# Altium footprint library 691 313 510 0xx.PcbLib: 23 footprints (part 1 of 2)
Each footprint in its own frame and in the unit in brackets; x right, y up, seen from the top. Pads: shape width x height; smd on the part's side, far side on the other; paste and mask are expansions set on the pad; w line width, h text height; cw(c..) or ccw(c..) is an arc to the next point about the centre after c.
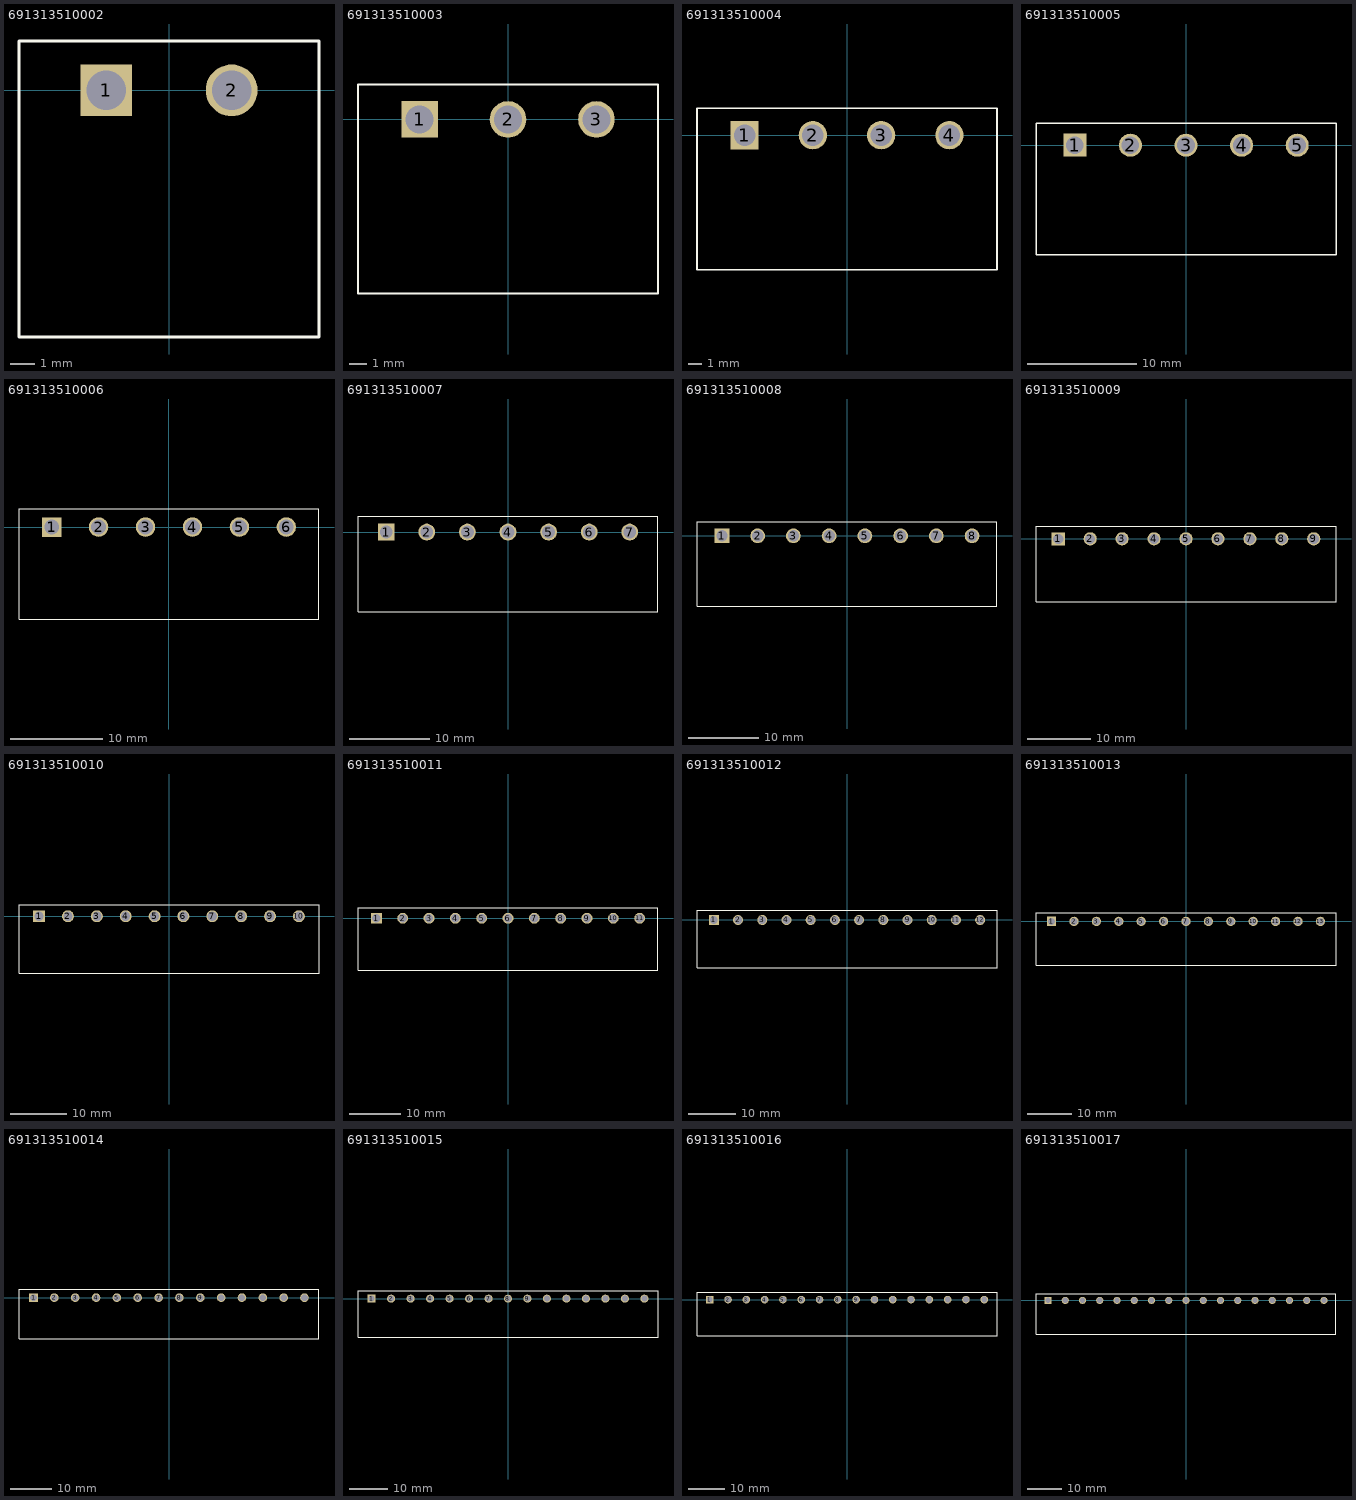
[diagram p0: the footprints below, top view; thin cyan lines are the x and y axes]

## 691313510002 [mm] "5,08mm - PCB Headers - Horizontal - Closed ends - 02p"
height 8.5
pads (2):
  rect 2.1x2.1 hole 1.6: 1(-2.54,0)
  round 2.1 hole 1.6: 2(2.54,0)
Top Overlay:
  lines w0.127: -6.08,-10 6.08,-10 6.08,2 -6.08,2 -6.08,-10
3D body: height 8.51, standoff -3.49, extent -6.08,-10 6.08,2

## 691313510003 [mm] "5,08mm - PCB Headers - Horizontal - Closed ends - 03p"
height 8.5
pads (3):
  rect 2.1x2.1 hole 1.6: 1(-5.08,0)
  round 2.1 hole 1.6: 2(0,0) 3(5.08,0)
Top Overlay:
  lines w0.127: -8.62,-10 8.62,-10 8.62,2 -8.62,2 -8.62,-10
3D body: height 8.51, standoff -3.49, extent -8.62,-10 8.62,2

## 691313510004 [mm] "5,08mm - PCB Headers - Horizontal - Closed ends - 04p"
height 8.5
pads (4):
  rect 2.1x2.1 hole 1.6: 1(-7.62,0)
  round 2.1 hole 1.6: 2(-2.54,0) 3(2.54,0) 4(7.62,0)
Top Overlay:
  lines w0.127: -11.16,-10 11.16,-10 11.16,2 -11.16,2 -11.16,-10
3D body: height 8.51, standoff -3.49, extent -11.16,-10 11.16,2

## 691313510005 [mm] "5,08mm - PCB Headers - Horizontal - Closed ends - 05p"
height 8.5
pads (5):
  rect 2.1x2.1 hole 1.6: 1(-10.16,0)
  round 2.1 hole 1.6: 2(-5.08,0) 3(0,0) 4(5.08,0) 5(10.16,0)
Top Overlay:
  lines w0.127: -13.7,-10 13.7,-10 13.7,2 -13.7,2 -13.7,-10
3D body: height 8.51, standoff -3.49, extent -13.7,-10 13.7,2

## 691313510006 [mm] "5,08mm - PCB Headers - Horizontal - Closed ends - 06p"
height 8.5
pads (6):
  rect 2.1x2.1 hole 1.6: 1(-12.7,0)
  round 2.1 hole 1.6: 2(-7.62,0) 3(-2.54,0) 4(2.54,0) 5(7.62,0) 6(12.7,0)
Top Overlay:
  lines w0.127: -16.24,-10 -16.24,2 16.24,2 16.24,-10 -16.24,-10
3D body: height 8.51, standoff -3.49, extent -16.24,-10 16.24,2

## 691313510007 [mm] "5,08mm - PCB Headers - Horizontal - Closed ends - 07p"
height 8.5
pads (7):
  rect 2.1x2.1 hole 1.6: 1(-15.24,0)
  round 2.1 hole 1.6: 2(-10.16,0) 3(-5.08,0) 4(0,0) 5(5.08,0) 6(10.16,0) 7(15.24,0)
Top Overlay:
  lines w0.127: -18.78,-10 18.78,-10 18.78,2 -18.78,2 -18.78,-10
3D body: height 8.51, standoff -3.49, extent -18.78,-10 18.78,2

## 691313510008 [mm] "5,08mm - PCB Headers - Horizontal - Closed ends - 08p"
height 8.5
pads (8):
  rect 2.1x2.1 hole 1.6: 1(-17.78,0)
  round 2.1 hole 1.6: 2(-12.7,0) 3(-7.62,0) 4(-2.54,0) 5(2.54,0) 6(7.62,0) 7(12.7,0) 8(17.78,0)
Top Overlay:
  lines w0.127: -21.32,-10 21.32,-10 21.32,2 -21.32,2 -21.32,-10
3D body: height 8.51, standoff -3.49, extent -21.32,-10 21.32,2

## 691313510009 [mm] "5,08mm - PCB Headers - Horizontal - Closed ends - 09p"
height 8.5
pads (9):
  rect 2.1x2.1 hole 1.6: 1(-20.32,0)
  round 2.1 hole 1.6: 2(-15.24,0) 3(-10.16,0) 4(-5.08,0) 5(0,0) 6(5.08,0) 7(10.16,0) 8(15.24,0) 9(20.32,0)
Top Overlay:
  lines w0.127: -23.86,-10 23.86,-10 23.86,2 -23.86,2 -23.86,-10
3D body: height 8.51, standoff -3.49, extent -23.86,-10 23.86,2

## 691313510010 [mm] "5,08mm - PCB Headers - Horizontal - Closed ends - 10p"
height 8.5
pads (10):
  rect 2.1x2.1 hole 1.6: 1(-22.86,0)
  round 2.1 hole 1.6: 2(-17.78,0) 3(-12.7,0) 4(-7.62,0) 5(-2.54,0) 6(2.54,0) 7(7.62,0) 8(12.7,0) 9(17.78,0) 10(22.86,0)
Top Overlay:
  lines w0.127: -26.4,-10 26.4,-10 26.4,2 -26.4,2 -26.4,-10
3D body: height 8.51, standoff -3.49, extent -26.4,-10 26.4,2

## 691313510011 [mm] "5,08mm - PCB Headers - Horizontal - Closed ends - 11p"
height 8.5
pads (11):
  rect 2.1x2.1 hole 1.6: 1(-25.4,0)
  round 2.1 hole 1.6: 2(-20.32,0) 3(-15.24,0) 4(-10.16,0) 5(-5.08,0) 6(0,0) 7(5.08,0) 8(10.16,0) 9(15.24,0) 10(20.32,0) 11(25.4,0)
Top Overlay:
  lines w0.127: -28.94,-10 -28.94,2 28.94,2 28.94,-10 -28.94,-10
3D body: height 8.51, standoff -3.49, extent -28.94,-10 28.94,2

## 691313510012 [mm] "5,08mm - PCB Headers - Horizontal - Closed ends - 12p"
height 8.5
pads (12):
  rect 2.1x2.1 hole 1.6: 1(-27.94,0)
  round 2.1 hole 1.6: 2(-22.86,0) 3(-17.78,0) 4(-12.7,0) 5(-7.62,0) 6(-2.54,0) 7(2.54,0) 8(7.62,0) 9(12.7,0) 10(17.78,0) 11(22.86,0) 12(27.94,0)
Top Overlay:
  lines w0.127: -31.48,-10 31.48,-10 31.48,2 -31.48,2 -31.48,-10
3D body: height 8.51, standoff -3.49, extent -31.48,-10 31.48,2

## 691313510013 [mm] "5,08mm - PCB Headers - Horizontal - Closed ends - 13p"
height 8.5
pads (13):
  rect 2.1x2.1 hole 1.6: 1(-30.48,0)
  round 2.1 hole 1.6: 2(-25.4,0) 3(-20.32,0) 4(-15.24,0) 5(-10.16,0) 6(-5.08,0) 7(0,0) 8(5.08,0) 9(10.16,0) 10(15.24,0) 11(20.32,0) 12(25.4,0) 13(30.48,0)
Top Overlay:
  lines w0.127: -34.02,-10 34.02,-10 34.02,2 -34.02,2 -34.02,-10
3D body: height 8.51, standoff -3.49, extent -34.02,-10 34.02,2

## 691313510014 [mm] "5,08mm - PCB Headers - Horizontal - Closed ends - 14p"
height 8.5
pads (14):
  rect 2.1x2.1 hole 1.6: 1(-33.02,0)
  round 2.1 hole 1.6: 2(-27.94,0) 3(-22.86,0) 4(-17.78,0) 5(-12.7,0) 6(-7.62,0) 7(-2.54,0) 8(2.54,0) 9(7.62,0) 10(12.7,0) 11(17.78,0) 12(22.86,0) 13(27.94,0) 14(33.02,0)
Top Overlay:
  lines w0.127: -36.56,-10 -36.56,2 36.56,2 36.56,-10 -36.56,-10
3D body: height 8.51, standoff -3.49, extent -36.56,-10 36.56,2

## 691313510015 [mm] "5,08mm - PCB Headers - Horizontal - Closed ends - 15p"
height 8.5
pads (15):
  rect 2.1x2.1 hole 1.6: 1(-35.56,0)
  round 2.1 hole 1.6: 2(-30.48,0) 3(-25.4,0) 4(-20.32,0) 5(-15.24,0) 6(-10.16,0) 7(-5.08,0) 8(0,0) 9(5.08,0) 10(10.16,0) 11(15.24,0) 12(20.32,0) 13(25.4,0) 14(30.48,0) 15(35.56,0)
Top Overlay:
  lines w0.127: -39.1,-10 39.1,-10 39.1,2 -39.1,2 -39.1,-10
3D body: height 8.51, standoff -3.49, extent -39.1,-10 39.1,2

## 691313510016 [mm] "5,08mm - PCB Headers - Horizontal - Closed ends - 16p"
height 8.5
pads (16):
  rect 2.1x2.1 hole 1.6: 1(-38.1,0)
  round 2.1 hole 1.6: 2(-33.02,0) 3(-27.94,0) 4(-22.86,0) 5(-17.78,0) 6(-12.7,0) 7(-7.62,0) 8(-2.54,0) 9(2.54,0) 10(7.62,0) 11(12.7,0) 12(17.78,0) 13(22.86,0) 14(27.94,0) 15(33.02,0) 16(38.1,0)
Top Overlay:
  lines w0.127: -41.64,-10 41.64,-10 41.64,2 -41.64,2 -41.64,-10
3D body: height 8.51, standoff -3.49, extent -41.64,-10 41.64,2

## 691313510017 [mm] "5,08mm - PCB Headers - Horizontal - Closed ends - 17p"
height 8.5
pads (17):
  rect 2.1x2.1 hole 1.6: 1(-40.64,0)
  round 2.1 hole 1.6: 2(-35.56,0) 3(-30.48,0) 4(-25.4,0) 5(-20.32,0) 6(-15.24,0) 7(-10.16,0) 8(-5.08,0) 9(0,0) 10(5.08,0) 11(10.16,0) 12(15.24,0) 13(20.32,0) 14(25.4,0) 15(30.48,0) 16(35.56,0) 17(40.64,0)
Top Overlay:
  lines w0.127: -44.18,-10 44.18,-10 44.18,2 -44.18,2 -44.18,-10
3D body: height 8.51, standoff -3.49, extent -44.18,-10 44.18,2